# Altium integrated library Derek_Altium_Lib.IntLib: 41 symbols
Pins are listed as number, name and electrical type; pins without a type are passive.

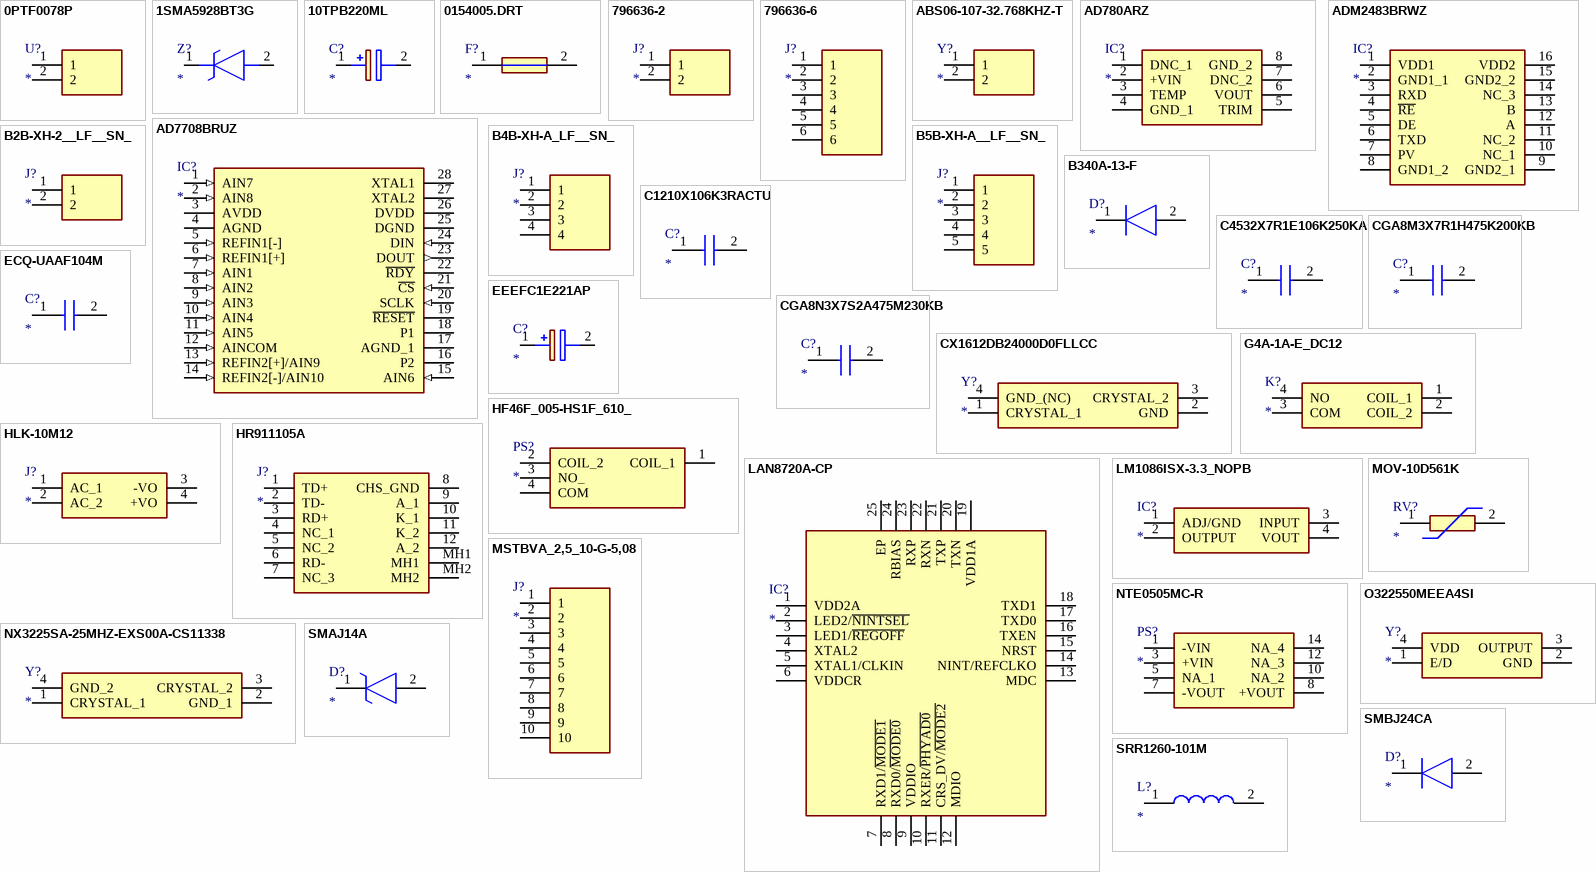
[diagram p0: symbols 0PTF0078P to SRR1260-101M]

## 0PTF0078P
designator U?
Undefined or Miscellaneous; Manufacturer_Name: LITTELFUSE; Manufacturer_Part_Number: 0PTF0078P; Datasheet Link: https://media.digikey.com/pdf/Data%20Sheets/Littelfuse%20PDFs/PTF075_77_78.pdf; Height: 11.5mm; Arrow Part Number: 0PTF0078P; Arrow Price/Stock: https://www.arrow.com/en/products/0ptf0078p/littelfuse; Mouser Part Number: 576-0PTF0078P; Mouser Price/Stock: https://www.mouser.co.uk/ProductDetail/Littelfuse/0PTF0078P?qs=Co4VkB5J4%2Fsczy6gG8s%2FsA%3D%3D
footprint 0PTF0078P
pins: 1, 2

## 1SMA5928BT3G
designator Z?
Zener Diode; Manufacturer_Name: ON Semiconductor; Manufacturer_Part_Number: 1SMA5928BT3G; Datasheet Link: http://uk.rs-online.com/web/p/products/7925341; Height: 2.2mm; Arrow Part Number: 1SMA5928BT3G; Arrow Price/Stock: https://www.arrow.com/en/products/1sma5928bt3g/on-semiconductor; Mouser Part Number: 863-1SMA5928BT3G; Mouser Price/Stock: https://www.mouser.com/Search/Refine.aspx?Keyword=863-1SMA5928BT3G
footprint DIOM5226X220N
pins: 1 K, 2 A

## 10TPB220ML
designator C?
Capacitor Polarised; Manufacturer_Name: Panasonic; Manufacturer_Part_Number: 10TPB220ML; Datasheet Link: https://industrial.panasonic.com/cdbs/www-data/pdf/AAA8000/AAA8000C65.pdf; Height: 3mm; Arrow Part Number: 10TPB220ML; Arrow Price/Stock: https://www.arrow.com/en/products/10tpb220ml/panasonic; Mouser Part Number: 667-10TPB220ML; Mouser Price/Stock: https://www.mouser.co.uk/ProductDetail/Panasonic/10TPB220ML?qs=OE1iw1LrrPFTwUUt0K85tg%3D%3D
footprint CAPPM7343X300N
pins: 1 +, 2 -

## 0154005.DRT
designator F?
Fuse; Manufacturer_Name: LITTELFUSE; Manufacturer_Part_Number: 0154005.DRT; Datasheet Link: http://www.littelfuse.com/~/media/electronics/datasheets/fuses/littelfuse_fuse_154_154t_154l_154tl_datasheet.pdf.pdf; Arrow Part Number: 0154005.DRT; Arrow Price/Stock: https://www.arrow.com/en/products/0154005.drt/littelfuse; Mouser Part Number: 576-0154005.DRT; Mouser Price/Stock: https://www.mouser.co.uk/ProductDetail/Littelfuse/0154005DRT?qs=2VFNtWizgifx0k3BLzdHRw%3D%3D
footprint 0154001.DRT
pins: 1, 2

## 796636-2
designator J?
Connector; Manufacturer_Name: TE Connectivity; Manufacturer_Part_Number: 796636-2; Description: Termi-Block Header Vert 2 way pcb; Datasheet Link: https://www.te.com/commerce/DocumentDelivery/DDEController?Action=srchrtrv&DocNm=796636&DocType=Customer+Drawing&DocLang=English&DocFormat=pdf&PartCntxt=796636-2; Height: 12mm; Arrow Part Number: 796636-2; Arrow Price/Stock: https://www.arrow.com/en/products/796636-2/te-connectivity; Mouser Part Number: 571-7966362; Mouser Price/Stock: https://www.mouser.co.uk/ProductDetail/TE-Connectivity-AMP/796636-2?qs=ZDXmSm13592KA8ZnIjDoOQ%3D%3D
footprint SHDR2W102P0X508_1X2_1198X835X1200P
pins: 1, 2

## 796636-6
designator J?
Connector; Manufacturer_Name: TE Connectivity; Manufacturer_Part_Number: 796636-6; Description: BUCHANAN - TE CONNECTIVITY - 796636-6 . - Terminal Block; Datasheet Link: https://componentsearchengine.com/Datasheets/2/796636-6.pdf; Height: 12mm; Arrow Part Number: 796636-6; Arrow Price/Stock: https://www.arrow.com/en/products/796636-6/te-connectivity
footprint 7966366
pins: 1, 2, 3, 4, 5, 6

## ABS06-107-32.768KHZ-T
designator Y?
Crystal or Oscillator; Manufacturer_Name: ABRACON; Manufacturer_Part_Number: ABS06-107-32.768KHZ-T; Datasheet Link: http://www.abracon.com/Resonators/ABS06-107-32.768kHz-T.pdf; Arrow Part Number: ABS06-107-32.768KHZ-T; Arrow Price/Stock: https://www.arrow.com/en/products/abs06-107-32.768khz-t/abracon; Mouser Part Number: 815-ABS06-107-32.7-T; Mouser Price/Stock: https://www.mouser.co.uk/ProductDetail/ABRACON/ABS06-107-32768kHz-T?qs=5tFv1HeeVJAi%2FcE16ri6Eg%3D%3D
footprint ABS06-107-32.768KHZ-T
pins: 1, 2

## AD780ARZ
designator IC?
Integrated Circuit; Manufacturer_Name: Analog Devices; Manufacturer_Part_Number: AD780ARZ; Datasheet Link: http://www.analog.com/static/imported-files/data_sheets/AD780.pdf; Height: 1.75mm; Arrow Part Number: AD780ARZ; Arrow Price/Stock: https://www.arrow.com/en/products/ad780arz/analog-devices; Mouser Part Number: 584-AD780ARZ; Mouser Price/Stock: https://www.mouser.co.uk/ProductDetail/Analog-Devices/AD780ARZ?qs=%2FtpEQrCGXCyp729ZuQKGvQ%3D%3D
footprint SOIC127P600X175-8N
pins: 1 DNC_1, 2 +VIN, 3 TEMP, 4 GND_1, 5 TRIM, 6 VOUT, 7 DNC_2, 8 GND_2

## AD7708BRUZ
designator IC?
Integrated Circuit; Manufacturer_Name: Analog Devices; Manufacturer_Part_Number: AD7708BRUZ; Datasheet Link: http://docs-emea.rs-online.com/webdocs/070a/0900766b8070a267.pdf; Height: 1.2mm; Arrow Part Number: AD7708BRUZ; Arrow Price/Stock: https://www.arrow.com/en/products/ad7708bruz/analog-devices; Mouser Part Number: 584-AD7708BRUZ; Mouser Price/Stock: https://www.mouser.com/Search/Refine.aspx?Keyword=584-AD7708BRUZ
footprint SOP65P640X120-28N
pins: 1 AIN7 (in), 2 AIN8 (in), 3 AVDD (power), 4 AGND (power), 5 REFIN1[-] (in), 6 REFIN1[+] (in), 7 AIN1 (in), 8 AIN2 (in), 9 AIN3 (in), 10 AIN4 (in), 11 AIN5 (in), 12 AINCOM (in), 13 REFIN2[+]/AIN9 (in), 14 REFIN2[-]/AIN10 (in), 15 AIN6 (in), 16 P2, 17 AGND_1 (power), 18 P1, 19 ~{RESET}, 20 SCLK (in), 21 ~{CS} (in), 22 ~{RDY}, 23 DOUT (out), 24 DIN (in), 25 DGND (power), 26 DVDD (power), 27 XTAL2, 28 XTAL1

## ADM2483BRWZ
designator IC?
Integrated Circuit; Manufacturer_Name: Analog Devices; Manufacturer_Part_Number: ADM2483BRWZ; Datasheet Link: http://uk.rs-online.com/web/p/products/0412719P; Height: 2.65mm; Arrow Part Number: ADM2483BRWZ; Arrow Price/Stock: https://www.arrow.com/en/products/adm2483brwz/analog-devices; Mouser Part Number: 584-ADM2483BRWZ; Mouser Price/Stock: https://www.mouser.co.uk/ProductDetail/Analog-Devices/ADM2483BRWZ?qs=BpaRKvA4VqH5Kim10agOlw%3D%3D
footprint SOIC127P1032X265-16N
pins: 1 VDD1, 2 GND1_1, 3 RXD, 4 ~{RE}, 5 DE, 6 TXD, 7 PV, 8 GND1_2, 9 GND2_1, 10 NC_1, 11 NC_2, 12 A, 13 B, 14 NC_3, 15 GND2_2, 16 VDD2

## B2B-XH-2__LF__SN_
designator J?
Connector; Manufacturer_Name: JST (JAPAN SOLDERLESS TERMINALS); Manufacturer_Part_Number: B2B-XH-2 (LF)(SN); Datasheet Link: http://uk.rs-online.com/web/p/products/1755297; Height: 7mm; Arrow Part Number: B2B-XH-2 (LF)(SN)
footprint B2BXH2LFSN
pins: 1, 2

## B4B-XH-A_LF__SN_
designator J?
Connector; Manufacturer_Name: JST Sales America; Manufacturer_Part_Number: B4B-XH-A(LF)(SN); Datasheet Link: https://datasheet.lcsc.com/szlcsc/JST-Sales-America-B4B-XH-A-LF-SN_C144395.pdf; Height: 7mm; Arrow Part Number: B4B-XH-A(LF)(SN)
footprint B4BXHALFSN
pins: 1, 2, 3, 4

## B5B-XH-A__LF__SN_
designator J?
Connector; Manufacturer_Name: JST (JAPAN SOLDERLESS TERMINALS); Manufacturer_Part_Number: B5B-XH-A (LF)(SN); Datasheet Link: http://www.farnell.com/datasheets/1684882.pdf; Height: 7mm; Arrow Part Number: B5B-XH-A (LF)(SN)
footprint SHDR5W64P0X250_1X5_1490X575X700P
pins: 1, 2, 3, 4, 5

## B340A-13-F
designator D?
Diode; Manufacturer_Name: Diodes Inc.; Manufacturer_Part_Number: B340A-13-F; Datasheet Link: http://www.diodes.com/_files/datasheets/ds30891.pdf; Height: 2.4mm; Arrow Part Number: B340A-13-F; Arrow Price/Stock: https://www.arrow.com/en/products/b340a-13-f/diodes-incorporated; Mouser Part Number: 621-B340A-F; Mouser Price/Stock: https://www.mouser.co.uk/ProductDetail/Diodes-Incorporated/B340A-13-F?qs=aLaTXeBcTP9fj%2FYKVo6Q1A%3D%3D
footprint DIOM5226X240N
pins: 1 K, 2 A

## C1210X106K3RACTU
designator C?
Capacitor; Manufacturer_Name: Kemet; Manufacturer_Part_Number: C1210X106K3RACTU; Datasheet Link: https://search.kemet.com/component-edge/download/specsheet/C1210X106K3RACTU.pdf; Height: 2.8mm; Arrow Part Number: C1210X106K3RACTU; Arrow Price/Stock: https://www.arrow.com/en/products/c1210x106k3ractu/kemet-corporation; Mouser Part Number: 80-C1210X106K3R; Mouser Price/Stock: https://www.mouser.com/Search/Refine.aspx?Keyword=80-C1210X106K3R
footprint CAPC3326X280N
pins: 1, 2

## C4532X7R1E106K250KA
designator C?
Capacitor; Manufacturer_Name: TDK; Manufacturer_Part_Number: C4532X7R1E106K250KA; Datasheet Link: https://componentsearchengine.com/Datasheets/2/C4532X7R1E106K250KA.pdf; Height: 2.5mm; Arrow Part Number: C4532X7R1E106K250KA; Mouser Part Number: 810-C4532X7R1E106K; Mouser Price/Stock: https://www.mouser.co.uk/ProductDetail/TDK/C4532X7R1E106K250KA?qs=NRhsANhppD%2F051ZW%252Bktn8A%3D%3D
footprint CAPC4532X250N
pins: 1, 2

## CGA8M3X7R1H475K200KB
designator C?
Capacitor; Manufacturer_Name: TDK; Manufacturer_Part_Number: CGA8M3X7R1H475K200KB; Datasheet Link: https://componentsearchengine.com/Datasheets/2/CGA8M3X7R1H475K200KB.pdf; Height: 2.2mm; Arrow Part Number: CGA8M3X7R1H475K200KB; Mouser Part Number: 810-CGA8M3X7R1H475K; Mouser Price/Stock: https://www.mouser.co.uk/ProductDetail/TDK/CGA8M3X7R1H475K200KB?qs=NRhsANhppD%2FbqBrESj9TBg%3D%3D
footprint CAPC4532X220N
pins: 1, 2

## CGA8N3X7S2A475M230KB
designator C?
Capacitor; Manufacturer_Name: TDK; Manufacturer_Part_Number: CGA8N3X7S2A475M230KB; Datasheet Link: https://product.tdk.com/info/en/documents/chara_sheet/CGA8N3X7S2A475M230KB.pdf; Height: 2.5mm; Arrow Part Number: CGA8N3X7S2A475M230KB; Arrow Price/Stock: https://www.arrow.com/en/products/cga8n3x7s2a475m230kb/tdk; Mouser Part Number: 810-CGA8N3X7S2A475MB; Mouser Price/Stock: https://www.mouser.co.uk/ProductDetail/TDK/CGA8N3X7S2A475M230KB?qs=xLDY6iXSiQZeGiULwb8UeA%3D%3D
footprint CAPC4532X250N
pins: 1, 2

## CX1612DB24000D0FLLCC
designator Y?
Crystal or Oscillator; Manufacturer_Name: Kyocera Electronic Components; Manufacturer_Part_Number: CX1612DB24000D0FLLCC; Datasheet Link: https://www.mouser.in/datasheet/2/909/cx1612db_cs_e-1393002.pdf; Height: 0.4mm; Arrow Part Number: CX1612DB24000D0FLLCC; Mouser Part Number: 581-CX1612DB24000D0F; Mouser Price/Stock: https://www.mouser.co.uk/ProductDetail/Kyocera-Electronic-Components/CX1612DB24000D0FLLCC?qs=5aG0NVq1C4wDffG4hf4EBw%3D%3D
footprint CX1612DB24000D0FLLCC
pins: 1 CRYSTAL_1, 2 GND, 3 CRYSTAL_2, 4 GND_(NC)

## ECQ-UAAF104M
designator C?
Capacitor; Manufacturer_Name: Panasonic; Manufacturer_Part_Number: ECQ-UAAF104M; Datasheet Link: https://industrial.panasonic.com/cdbs/www-data/pdf/RDI0000/ABD0000C249.pdf; Height: 12.5mm; Arrow Part Number: ECQ-UAAF104M; Arrow Price/Stock: https://www.arrow.com/en/products/ecquaaf104m/panasonic; Mouser Part Number: 667-ECQ-UAAF104M; Mouser Price/Stock: https://www.mouser.co.uk/ProductDetail/Panasonic/ECQ-UAAF104M?qs=C7H2C2ytqFWtOclI%252BvtUwQ%3D%3D
footprint ECQUAAF104M
pins: 1, 2

## EEEFC1E221AP
designator C?
Capacitor Polarised; Manufacturer_Name: Panasonic; Manufacturer_Part_Number: EEEFC1E221AP; Datasheet Link: https://www.arrow.com/en/products/eee-fc1e221ap/panasonic; Height: 10.5mm; Arrow Part Number: EEEFC1E221AP
footprint CAPAE1030X1050N
pins: 1 +, 2 -

## G4A-1A-E_DC12
designator K?
Relay or Contactor; Manufacturer_Name: Omron Electronics; Manufacturer_Part_Number: G4A-1A-E DC12; Datasheet Link: https://omronfs.omron.com/en_US/ecb/products/pdf/en-g4a.pdf; Height: 33.5mm; Arrow Part Number: G4A-1A-E DC12; Arrow Price/Stock: https://www.arrow.com/en/products/g4a1aedc12/omron
footprint G4A1AEDC12
pins: 1 COIL_1, 2 COIL_2, 3 COM, 4 NO

## HF46F_005-HS1F_610_
designator PS?
Power Supply; Manufacturer_Name: Hongfa; Manufacturer_Part_Number: HF46F/005-HS1F(610); Datasheet Link: http://www.hongfa.com/pro/pdf/HF46F_en.pdf; Height: 15.6mm; Arrow Part Number: HF46F/005-HS1F(610)
footprint HF46F005HS1F610
pins: 1 COIL_1, 2 COIL_2, 3 NO_, 4 COM

## HLK-10M12
designator J?
Connector; Manufacturer_Name: Hi-Link; Manufacturer_Part_Number: HLK-10M12; Datasheet Link: https://datasheet.lcsc.com/szlcsc/1909111105_HI-LINK-HLK-10M12_C403746.pdf; Height: 21.8mm; Arrow Part Number: HLK-10M12
footprint HLK10M12
pins: 1 AC_1, 2 AC_2, 3 -VO, 4 +VO

## HR911105A
designator J?
Connector; Manufacturer_Name: HANRUN(Zhongshan HanRun Elec); Manufacturer_Part_Number: HR911105A; Datasheet Link: https://datasheet.lcsc.com/szlcsc/Zhongshan-HanRun-Elec-HR911105A_C12074.pdf; Height: 13.75mm; Arrow Part Number: HR911105A
footprint HR911105A
pins: 1 TD+, 2 TD-, 3 RD+, 4 NC_1, 5 NC_2, 6 RD-, 7 NC_3, 8 CHS_GND, 9 A_1, 10 K_1, 11 K_2, 12 A_2, MH1, MH2

## LAN8720A-CP
designator IC?
Integrated Circuit; Manufacturer_Name: Microchip; Manufacturer_Part_Number: LAN8720A-CP; Description: MICROCHIP - LAN8720A-CP - IC; Datasheet Link: http://ww1.microchip.com/downloads/en/DeviceDoc/8720a.pdf; Height: 1mm; Arrow Part Number: LAN8720A-CP; Arrow Price/Stock: https://www.arrow.com/en/products/lan8720a-cp/microchip-technology; Mouser Part Number: 886-LAN8720A-CP; Mouser Price/Stock: https://www.mouser.co.uk/ProductDetail/Microchip-Technology/LAN8720A-CP?qs=pA5MXup5wxF9mfEVLnGX8g%3D%3D
footprint QFN50P400X400X100-25N-D
pins: 1 VDD2A, 2 LED2/~{NINTSEL}, 3 LED1/~{REGOFF}, 4 XTAL2, 5 XTAL1/CLKIN, 6 VDDCR, 7 RXD1/~{MODE1}, 8 RXD0/~{MODE0}, 9 VDDIO, 10 RXER/~{PHYAD0}, 11 CRS_DV/~{MODE2}, 12 MDIO, 13 MDC, 14 NINT/REFCLKO, 15 NRST, 16 TXEN, 17 TXD0, 18 TXD1, 19 VDD1A, 20 TXN, 21 TXP, 22 RXN, 23 RXP, 24 RBIAS, 25 EP

## LM1086ISX-3.3_NOPB
designator IC?
Integrated Circuit; Manufacturer_Name: Texas Instruments; Manufacturer_Part_Number: LM1086ISX-3.3/NOPB; Datasheet Link: http://www.ti.com/lit/gpn/lm1086; Arrow Part Number: LM1086ISX-3.3/NOPB; Arrow Price/Stock: https://www.arrow.com/en/products/lm1086isx-3.3nopb/texas-instruments; Mouser Part Number: 926-LM1086ISX3.3NOPB; Mouser Price/Stock: https://www.mouser.co.uk/ProductDetail/Texas-Instruments/LM1086ISX-33-NOPB?qs=X1J7HmVL2ZETK4RYDrDAnQ%3D%3D
footprint KTT0003B
pins: 1 ADJ/GND, 2 OUTPUT, 3 INPUT, 4 VOUT

## MOV-10D561K
designator RV?
Varistor; Manufacturer_Name: Bourns; Manufacturer_Part_Number: MOV-10D561K; Datasheet Link: https://www.bourns.com/docs/Product-Datasheets/MOV10D.pdf; Height: 15.5mm; Arrow Part Number: MOV-10D561K; Arrow Price/Stock: https://www.arrow.com/en/products/mov-10d561k/bourns; Mouser Part Number: 652-MOV-10D561K; Mouser Price/Stock: https://www.mouser.co.uk/ProductDetail/Bourns/MOV-10D561K?qs=lgttKnAd%252B2ArrqGQgWwr6w%3D%3D
footprint MOV10D561K
pins: 1, 2

## MSTBVA_2,5_10-G-5,08
designator J?
Connector; Manufacturer_Name: Phoenix Contact; Manufacturer_Part_Number: MSTBVA 2,5/10-G-5,08; Datasheet Link: http://www.farnell.com/datasheets/2325596.pdf; Height: 12.15mm; Arrow Part Number: MSTBVA 2,5/10-G-5,08
footprint SHDR10W103P0X508_1X10_5280X857X1215P
pins: 1, 2, 3, 4, 5, 6, 7, 8, 9, 10

## NTE0505MC-R
designator PS?
Power Supply; Manufacturer_Name: Murata Electronics; Manufacturer_Part_Number: NTE0505MC-R; Datasheet Link: https://power.murata.com/datasheet?/data/power/ncl/kdc_nte.pdf; Height: 6.85mm; Arrow Part Number: NTE0505MC-R; Arrow Price/Stock: https://www.arrow.com/en/products/nte0505mc-r/murata-power-solutions; Mouser Part Number: 580-NTE0505MC-R; Mouser Price/Stock: https://www.mouser.com/Search/Refine.aspx?Keyword=580-NTE0505MC-R
footprint NTE0505MCR
pins: 1 -VIN, 3 +VIN, 5 NA_1, 7 -VOUT, 8 +VOUT, 10 NA_2, 12 NA_3, 14 NA_4

## NX3225SA-25MHZ-EXS00A-CS11338
designator Y?
Crystal or Oscillator; Manufacturer_Name: NDK; Manufacturer_Part_Number: NX3225SA-25MHZ-EXS00A-CS11338; Datasheet Link: https://media.digikey.com/pdf/Data%20Sheets/NDK%20PDFs/NX3225SA-25MHZ-EXS00A-CS11338.pdf; Height: 0.6mm; Arrow Part Number: NX3225SA-25MHZ-EXS00A-CS11338
footprint NX3225SA25MHZEXS00ACS11338
pins: 1 CRYSTAL_1, 2 GND_1, 3 CRYSTAL_2, 4 GND_2

## O322550MEEA4SI
designator Y?
Crystal or Oscillator; Manufacturer_Name: Yangxing Tech; Manufacturer_Part_Number: O322550MEEA4SI; Description: SMD Oscillators(XO) 50MHz +/-25ppm SMD-3225_4P RoHS; Datasheet Link: https://datasheet.lcsc.com/szlcsc/Yangxing-Tech-O322550MEEA4SI_C70607.pdf; Height: 1.1mm; Arrow Part Number: O322550MEEA4SI
footprint O322550MEEA4SI
pins: 1 E/D, 2 GND, 3 OUTPUT, 4 VDD

## SMAJ14A
designator D?
TVS Diode (Uni-directional); Manufacturer_Name: LITTELFUSE; Manufacturer_Part_Number: SMAJ14A; Datasheet Link: https://componentsearchengine.com/Datasheets/2/SMAJ14A.pdf; Height: 2.29mm; Arrow Part Number: SMAJ14A; Arrow Price/Stock: https://www.arrow.com/en/products/smaj14a/littelfuse; Mouser Part Number: 576-SMAJ14A; Mouser Price/Stock: https://www.mouser.co.uk/ProductDetail/Littelfuse/SMAJ14A?qs=HR2RnyOI4E4Xmn1pka9YNw%3D%3D
footprint DIOM5127X229N
pins: 1 K, 2 A

## SMBJ24CA
designator D?
Diode; Manufacturer_Name: STMicroelectronics; Manufacturer_Part_Number: SMBJ24CA; Datasheet Link: http://www.st.com/web/en/resource/technical/document/datasheet/CD00001366.pdf; Height: 2.65mm; Arrow Part Number: SMBJ24CA
footprint SMBJ36CATR
pins: 1 K, 2 A

## SRR1260-101M
designator L?
Inductor; Manufacturer_Name: Bourns; Manufacturer_Part_Number: SRR1260-101M; Datasheet Link: https://componentsearchengine.com/Datasheets/1/SRR1260-101M.pdf; Height: 6.5mm; Arrow Part Number: SRR1260-101M; Arrow Price/Stock: https://www.arrow.com/en/products/srr1260-101m/bourns; Mouser Part Number: 652-SRR1260-101M; Mouser Price/Stock: https://www.mouser.co.uk/ProductDetail/Bourns/SRR1260-101M?qs=uD%2FoUDWqfvQozr%2Ff4%252BPuSQ%3D%3D
footprint SRR1260101M
pins: 1, 2

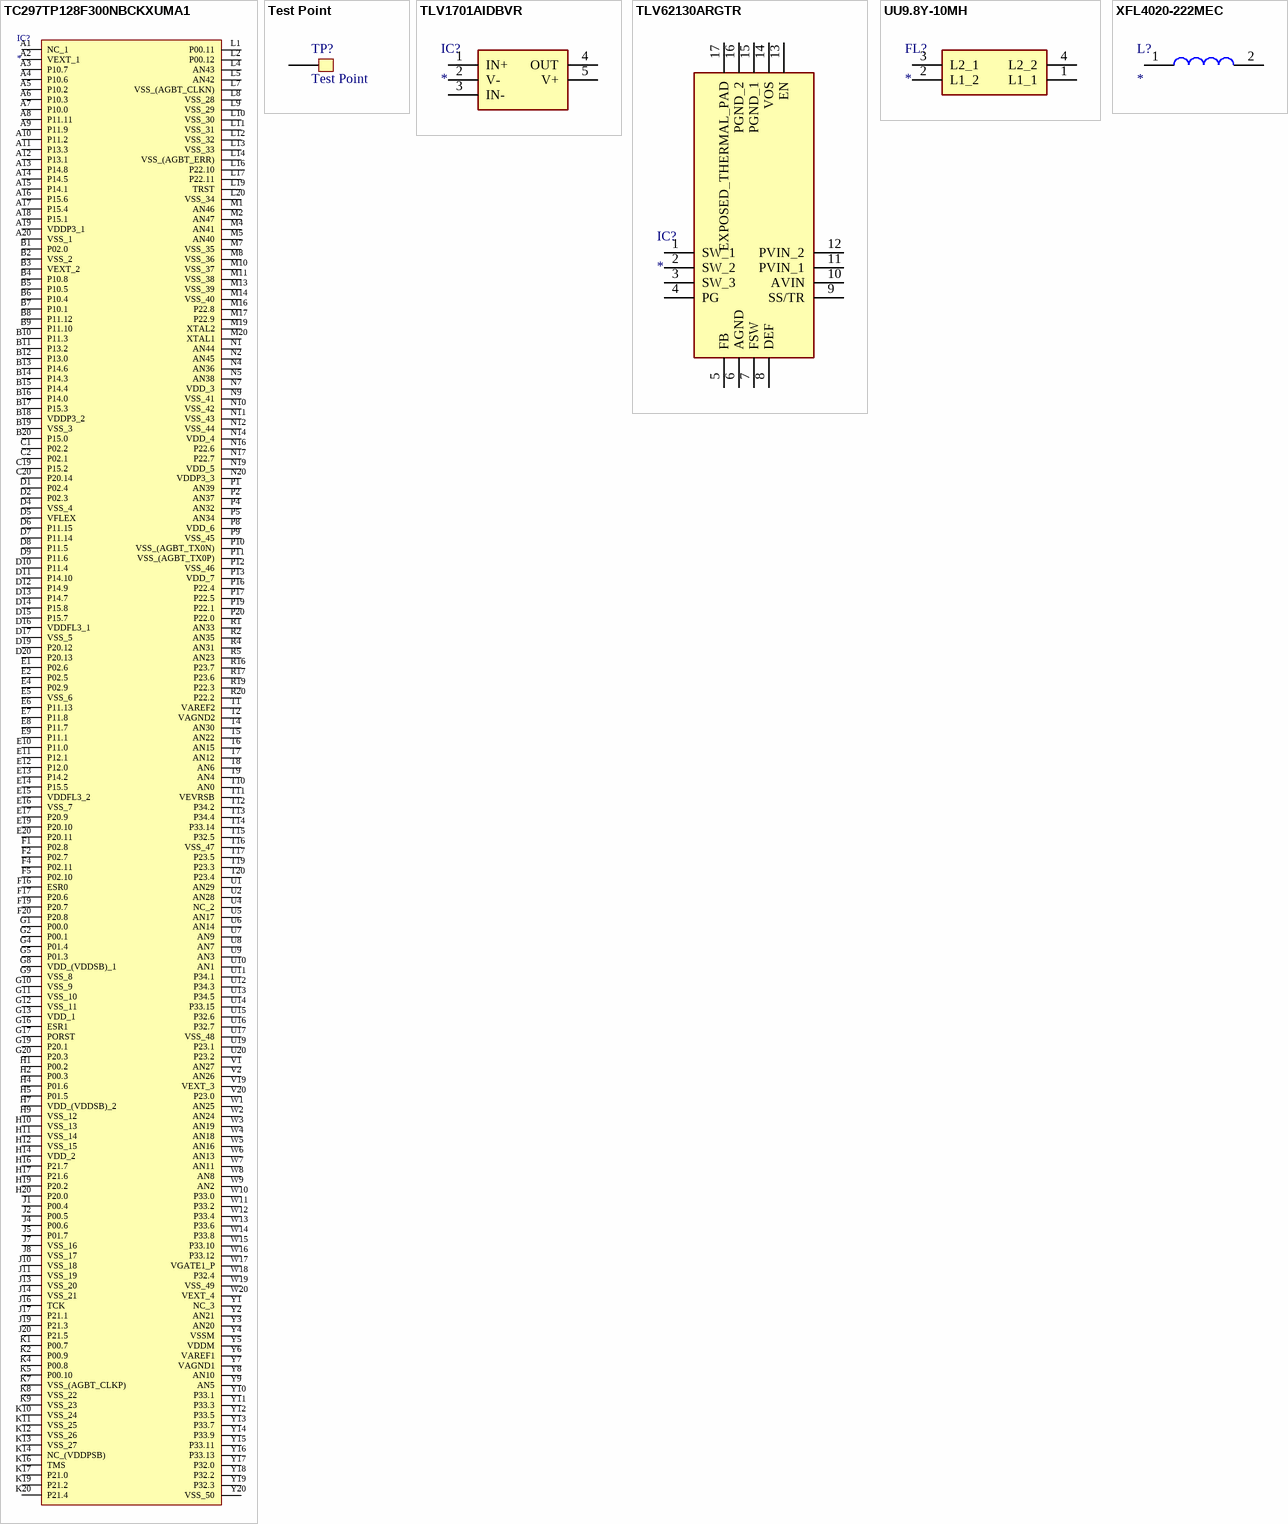
[diagram p1: symbols TC297TP128F300NBCKXUMA1 to XFL4020-222MEC]

## TC297TP128F300NBCKXUMA1
designator IC?
Integrated Circuit; Manufacturer_Name: Infineon; Manufacturer_Part_Number: TC297TP128F300NBCKXUMA1; Datasheet Link: https://componentsearchengine.com/Datasheets/1/TC297TP128F300NBCKXUMA1.pdf; Height: 1.7mm; Arrow Part Number: TC297TP128F300NBCKXUMA1; Arrow Price/Stock: https://www.arrow.com/en/products/tc297tp128f300nbckxuma1/infineon-technologies-ag; Mouser Part Number: 726-TC297TP128F300NB; Mouser Price/Stock: https://www.mouser.co.uk/ProductDetail/Infineon-Technologies/TC297TP128F300NBCKXUMA1?qs=QIiuLP2W41AIQj1rYeGt8g%3D%3D
footprint BGA292C80P20X20_1700X1700X170
pins: A1 NC_1, A2 VEXT_1, A3 P10.7, A4 P10.6, A5 P10.2, A6 P10.3, A7 P10.0, A8 P11.11, A9 P11.9, A10 P11.2, A11 P13.3, A12 P13.1, A13 P14.8, A14 P14.5, A15 P14.1, A16 P15.6, A17 P15.4, A18 P15.1, A19 VDDP3_1, A20 VSS_1, B1 P02.0, B2 VSS_2, B3 VEXT_2, B4 P10.8, B5 P10.5, B6 P10.4, B7 P10.1, B8 P11.12, B9 P11.10, B10 P11.3, B11 P13.2, B12 P13.0, B13 P14.6, B14 P14.3, B15 P14.4, B16 P14.0, B17 P15.3, B18 VDDP3_2, B19 VSS_3, B20 P15.0, C1 P02.2, C2 P02.1, C19 P15.2, C20 P20.14, D1 P02.4, D2 P02.3, D4 VSS_4, D5 VFLEX, D6 P11.15, D7 P11.14, D8 P11.5, D9 P11.6, D10 P11.4, D11 P14.10, D12 P14.9, D13 P14.7, D14 P15.8, D15 P15.7, D16 VDDFL3_1, D17 VSS_5, D19 P20.12, D20 P20.13, E1 P02.6, E2 P02.5, E4 P02.9, E5 VSS_6, E6 P11.13, E7 P11.8, E8 P11.7, E9 P11.1, E10 P11.0, E11 P12.1, E12 P12.0, E13 P14.2, E14 P15.5, E15 VDDFL3_2, E16 VSS_7, E17 P20.9, E19 P20.10, E20 P20.11, F1 P02.8, F2 P02.7, F4 P02.11, F5 P02.10, F16 ESR0, F17 P20.6, F19 P20.7, F20 P20.8, G1 P00.0, G2 P00.1, G4 P01.4, G5 P01.3, G8 VDD_(VDDSB)_1, G9 VSS_8, G10 VSS_9, G11 VSS_10, G12 VSS_11, G13 VDD_1, G16 ESR1, G17 PORST, G19 P20.1, G20 P20.3, H1 P00.2, H2 P00.3, H4 P01.6, H5 P01.5, H7 VDD_(VDDSB)_2, H9 VSS_12, H10 VSS_13, H11 VSS_14, H12 VSS_15, H14 VDD_2, H16 P21.7, H17 P21.6, H19 P20.2, H20 P20.0, J1 P00.4, J2 P00.5, J4 P00.6, J5 P01.7, J7 VSS_16, J8 VSS_17, J10 VSS_18, J11 VSS_19, J13 VSS_20, J14 VSS_21, J16 TCK, J17 P21.1, J19 P21.3, J20 P21.5, K1 P00.7, K2 P00.9, K4 P00.8, K5 P00.10, K7 VSS_(AGBT_CLKP), K8 VSS_22, K9 VSS_23, K10 VSS_24, K11 VSS_25, K12 VSS_26, K13 VSS_27, K14 NC_(VDDPSB), K16 TMS, K17 P21.0, K19 P21.2, K20 P21.4, L1 P00.11, L2 P00.12, L4 AN43, L5 AN42, L7 VSS_(AGBT_CLKN), L8 VSS_28, L9 VSS_29, L10 VSS_30, L11 VSS_31, L12 VSS_32, L13 VSS_33, L14 VSS_(AGBT_ERR), L16 P22.10, L17 P22.11, L19 TRST, L20 VSS_34, M1 AN46, M2 AN47, M4 AN41, M5 AN40, M7 VSS_35, M8 VSS_36, M10 VSS_37, M11 VSS_38, M13 VSS_39, M14 VSS_40, M16 P22.8, M17 P22.9, M19 XTAL2, M20 XTAL1, N1 AN44, N2 AN45, N4 AN36, N5 AN38, N7 VDD_3, N9 VSS_41, N10 VSS_42, N11 VSS_43, N12 VSS_44, N14 VDD_4, N16 P22.6, N17 P22.7, N19 VDD_5, N20 VDDP3_3, P1 AN39, P2 AN37, P4 AN32, P5 AN34, P8 VDD_6, P9 VSS_45, P10 VSS_(AGBT_TX0N), P11 VSS_(AGBT_TX0P), P12 VSS_46, P13 VDD_7, P16 P22.4, P17 P22.5, P19 P22.1, P20 P22.0, R1 AN33, R2 AN35, R4 AN31, R5 AN23, R16 P23.7, R17 P23.6, R19 P22.3, R20 P22.2, T1 VAREF2, T2 VAGND2, T4 AN30, T5 AN22, T6 AN15, T7 AN12, T8 AN6, T9 AN4, T10 AN0, T11 VEVRSB, T12 P34.2, T13 P34.4, T14 P33.14, T15 P32.5, T16 VSS_47, T17 P23.5, T19 P23.3, T20 P23.4, U1 AN29, U2 AN28, U4 NC_2, U5 AN17, U6 AN14, U7 AN9, U8 AN7, U9 AN3, U10 AN1, U11 P34.1, U12 P34.3, U13 P34.5, U14 P33.15, U15 P32.6, U16 P32.7, U17 VSS_48, U19 P23.1, U20 P23.2, V1 AN27, V2 AN26, V19 VEXT_3, V20 P23.0, W1 AN25, W2 AN24, W3 AN19, W4 AN18, W5 AN16, W6 AN13, W7 AN11, W8 AN8, W9 AN2, W10 P33.0, W11 P33.2, W12 P33.4, W13 P33.6, W14 P33.8, W15 P33.10, W16 P33.12, W17 VGATE1_P, W18 P32.4, W19 VSS_49, W20 VEXT_4, Y1 NC_3, Y2 AN21, Y3 AN20, Y4 VSSM, Y5 VDDM, Y6 VAREF1, Y7 VAGND1, Y8 AN10, Y9 AN5, Y10 P33.1, Y11 P33.3, Y12 P33.5, Y13 P33.7, Y14 P33.9, Y15 P33.11, Y16 P33.13, Y17 P32.0, Y18 P32.2, Y19 P32.3, Y20 VSS_50

## Test Point
designator TP?
footprint TEST POINT
pins: 1

## TLV1701AIDBVR
designator IC?
Integrated Circuit; Manufacturer_Name: Texas Instruments; Manufacturer_Part_Number: TLV1701AIDBVR; Datasheet Link: http://www.ti.com/lit/gpn/tlv1701; Height: 1.45mm; Arrow Part Number: TLV1701AIDBVR; Arrow Price/Stock: https://www.arrow.com/en/products/tlv1701aidbvr/texas-instruments; Mouser Part Number: 595-TLV1701AIDBVR; Mouser Price/Stock: https://www.mouser.co.uk/ProductDetail/Texas-Instruments/TLV1701AIDBVR?qs=ifm8N2KdrcYpTmQZR4WUmQ%3D%3D
footprint SOT95P280X145-5N
pins: 1 IN+, 2 V-, 3 IN-, 4 OUT, 5 V+

## TLV62130ARGTR
designator IC?
Integrated Circuit; Manufacturer_Name: Texas Instruments; Manufacturer_Part_Number: TLV62130ARGTR; Datasheet Link: http://www.ti.com/lit/ds/symlink/tlv62130a.pdf; Height: 1mm; Arrow Part Number: TLV62130ARGTR; Arrow Price/Stock: https://www.arrow.com/en/products/tlv62130argtr/texas-instruments; Mouser Part Number: 595-TLV62130ARGTR; Mouser Price/Stock: https://www.mouser.co.uk/ProductDetail/Texas-Instruments/TLV62130ARGTR?qs=iIeLWXrA%252B1W4VUCYARbqlA%3D%3D
footprint QFN50P300X300X100-17N-D
pins: 1 SW_1, 2 SW_2, 3 SW_3, 4 PG, 5 FB, 6 AGND, 7 FSW, 8 DEF, 9 SS/TR, 10 AVIN, 11 PVIN_1, 12 PVIN_2, 13 EN, 14 VOS, 15 PGND_1, 16 PGND_2, 17 EXPOSED_THERMAL_PAD

## UU9.8Y-10MH
designator FL?
Filter; Manufacturer_Name: Guangdong Fenghua Advanced Tech; Manufacturer_Part_Number: UU9.8Y-10MH; Datasheet Link: https://datasheet.lcsc.com/szlcsc/Guangdong-Fenghua-Advanced-Tech-UU9-8Y-10mH_C75192.pdf; Height: 14mm; Arrow Part Number: UU9.8Y-10MH
footprint UU98Y10MH
pins: 1 L1_1, 2 L1_2, 3 L2_1, 4 L2_2

## XFL4020-222MEC
designator L?
Inductor; Manufacturer_Name: COILCRAFT; Manufacturer_Part_Number: XFL4020-222MEC; Datasheet Link: https://www.coilcraft.com/pdfs/xfl4020.pdf; Height: 3mm; Arrow Part Number: XFL4020-222MEC; Mouser Part Number: 994-XFL4020-222MEC; Mouser Price/Stock: https://www.mouser.co.uk/ProductDetail/Coilcraft/XFL4020-222MEC?qs=zCSbvcPd3pbe5jEAG1ZkEA%3D%3D
footprint XFL4030472MEB
pins: 1, 2